# Altium footprint library Connector_TE-Connectivity.PcbLib: 65 footprints (part 4 of 5)
Each footprint in its own frame and in the unit in brackets; x right, y up, seen from the top. Pads: shape width x height; smd on the part's side, far side on the other; paste and mask are expansions set on the pad; w line width, h text height; cw(c..) or ccw(c..) is an arc to the next point about the centre after c.
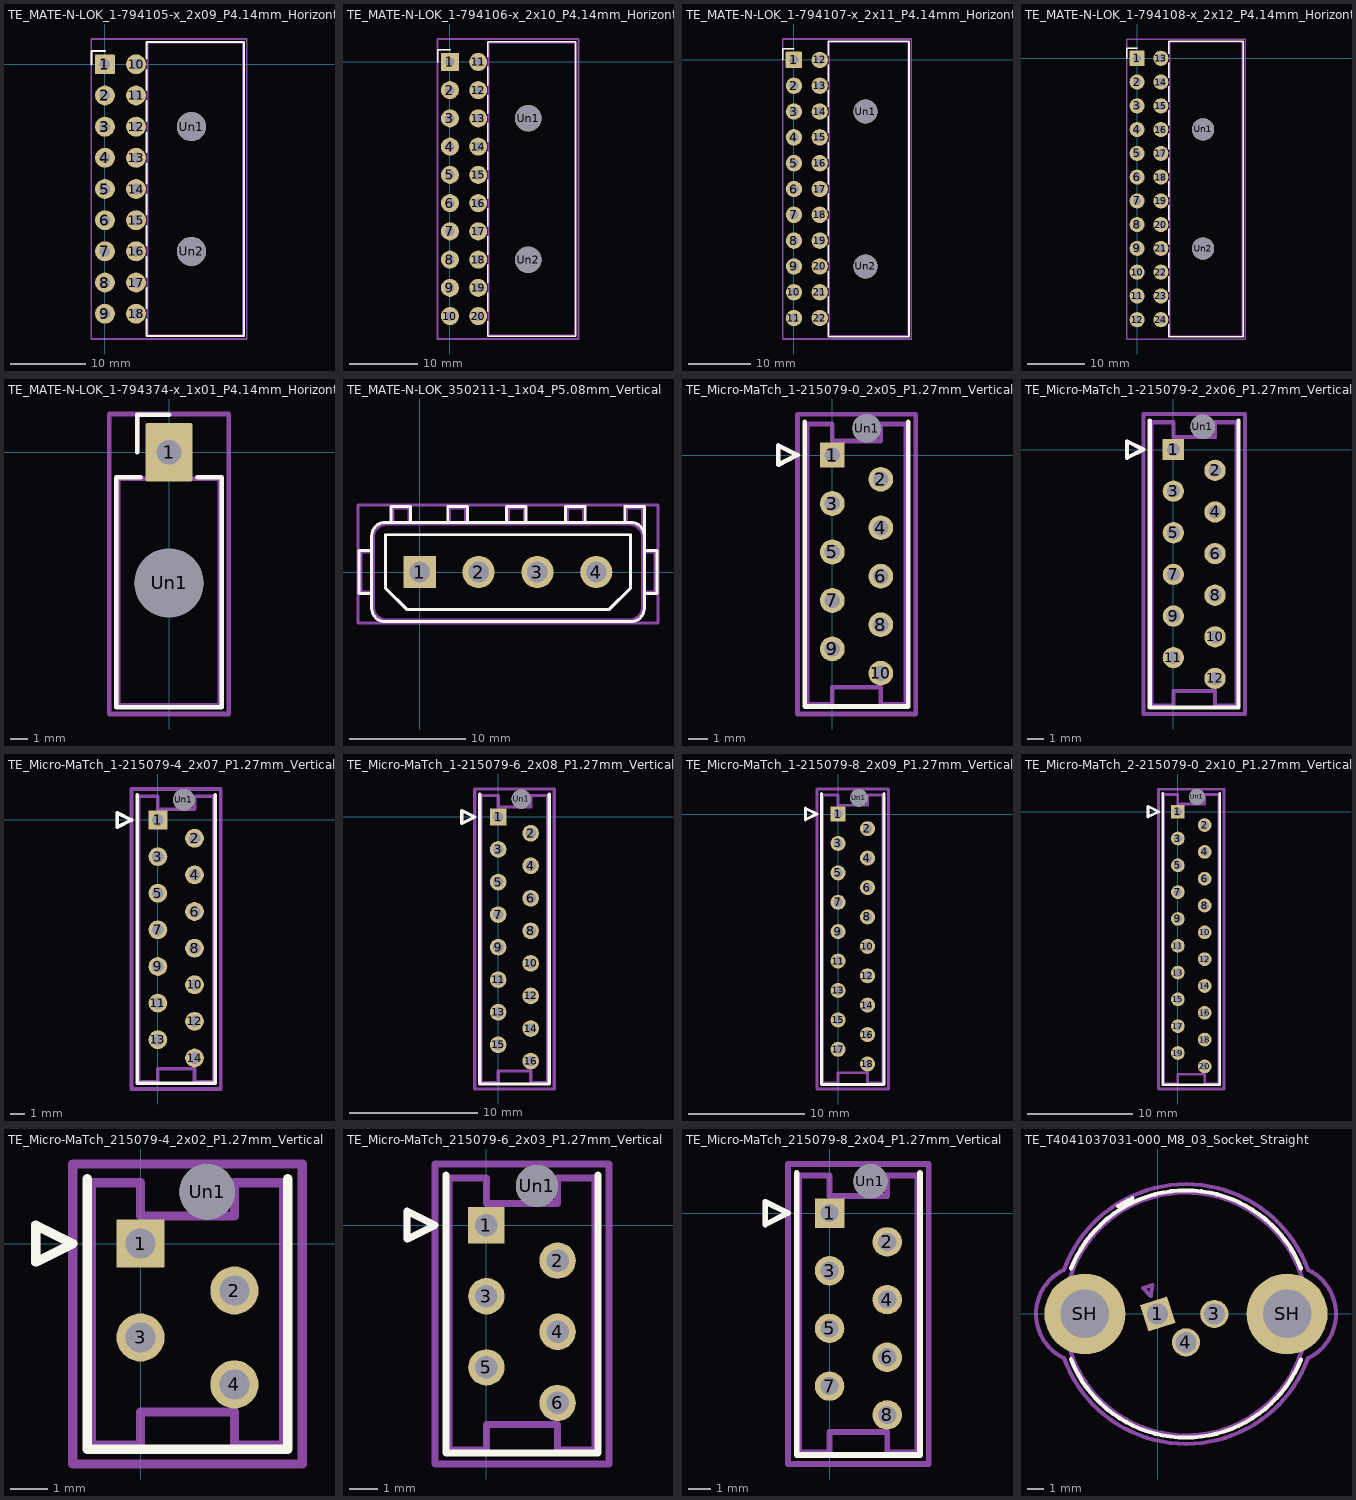
[diagram p3: the footprints below, top view; thin cyan lines are the x and y axes]

## TE_MATE-N-LOK_1-794105-x_2x09_P4.14mm_Horizontal [mm]
pads (20):
  rrect9% 2.64x2.64 hole 1.4: 1(0,0)
  round 2.64 hole 1.4: 2(0,-4.14) 3(0,-8.28) 4(0,-12.42) 5(0,-16.56) 6(0,-20.7) 7(0,-24.84) 8(0,-28.98) 9(0,-33.12) 10(4.14,0) 11(4.14,-4.14) 12(4.14,-8.28) 13(4.14,-12.42) 14(4.14,-16.56) 15(4.14,-20.7) 16(4.14,-24.84) 17(4.14,-28.98) 18(4.14,-33.12)
  round 3.86 hole 3.86: Un1(11.48,-8.28) Un2(11.48,-24.84)
F.SilkS:
  lines w0.254: -1.78,0 -1.78,1.78 0,1.78 ; 5.53,-33.871 5.53,-36.09 18.45,-36.09 18.45,2.97 5.53,2.97 5.53,0.751 ; 5.53,-32.369 5.53,-29.731 ; 5.53,-28.229 5.53,-25.591 ; 5.53,-24.089 5.53,-21.451 ; 5.53,-19.949 5.53,-17.311 ; 5.53,-15.809 5.53,-13.171 ; 5.53,-11.669 5.53,-9.031 ; 5.53,-7.529 5.53,-4.891 ; 5.53,-3.389 5.53,-0.751
Top Assembly:
  lines w0.254: -1.78,0 -1.78,1.78 0,1.78 ; 5.64,-35.98 18.34,-35.98 18.34,2.86 5.64,2.86 5.64,-35.98
  text "'.Designator'" at 18.48,-20.607 h1
Top Courtyard:
  lines w0.254: -1.82,-36.48 18.84,-36.48 18.84,3.36 -1.82,3.36 -1.82,-36.48
Top Designator:
  text ".Designator" at 0.892,-17.068 h1.52

## TE_MATE-N-LOK_1-794106-x_2x10_P4.14mm_Horizontal [mm]
pads (22):
  rrect9% 2.64x2.64 hole 1.4: 1(0,0)
  round 2.64 hole 1.4: 2(0,-4.14) 3(0,-8.28) 4(0,-12.42) 5(0,-16.56) 6(0,-20.7) 7(0,-24.84) 8(0,-28.98) 9(0,-33.12) 10(0,-37.26) 11(4.14,0) 12(4.14,-4.14) 13(4.14,-8.28) 14(4.14,-12.42) 15(4.14,-16.56) 16(4.14,-20.7) 17(4.14,-24.84) 18(4.14,-28.98) 19(4.14,-33.12) 20(4.14,-37.26)
  round 3.86 hole 3.86: Un1(11.48,-8.25) Un2(11.48,-29.01)
F.SilkS:
  lines w0.254: -1.78,0 -1.78,1.78 0,1.78 ; 5.53,-38.011 5.53,-40.23 18.45,-40.23 18.45,2.97 5.53,2.97 5.53,0.751 ; 5.53,-36.509 5.53,-33.871 ; 5.53,-32.369 5.53,-29.731 ; 5.53,-28.229 5.53,-25.591 ; 5.53,-24.089 5.53,-21.451 ; 5.53,-19.949 5.53,-17.311 ; 5.53,-15.809 5.53,-13.171 ; 5.53,-11.669 5.53,-9.031 ; 5.53,-7.529 5.53,-4.891 ; 5.53,-3.389 5.53,-0.751
Top Assembly:
  lines w0.254: -1.78,0 -1.78,1.78 0,1.78 ; 5.64,-40.12 18.34,-40.12 18.34,2.86 5.64,2.86 5.64,-40.12
  text "'.Designator'" at 18.48,-22.677 h1
Top Courtyard:
  lines w0.254: -1.82,-40.62 18.84,-40.62 18.84,3.36 -1.82,3.36 -1.82,-40.62
Top Designator:
  text ".Designator" at 0.892,-19.138 h1.52

## TE_MATE-N-LOK_1-794107-x_2x11_P4.14mm_Horizontal [mm]
pads (24):
  rrect9% 2.64x2.64 hole 1.4: 1(0,0)
  round 2.64 hole 1.4: 2(0,-4.14) 3(0,-8.28) 4(0,-12.42) 5(0,-16.56) 6(0,-20.7) 7(0,-24.84) 8(0,-28.98) 9(0,-33.12) 10(0,-37.26) 11(0,-41.4) 12(4.14,0) 13(4.14,-4.14) 14(4.14,-8.28) 15(4.14,-12.42) 16(4.14,-16.56) 17(4.14,-20.7) 18(4.14,-24.84) 19(4.14,-28.98) 20(4.14,-33.12) 21(4.14,-37.26) 22(4.14,-41.4)
  round 3.86 hole 3.86: Un1(11.48,-8.28) Un2(11.48,-33.12)
F.SilkS:
  lines w0.254: -1.78,0 -1.78,1.78 0,1.78 ; 5.53,-42.151 5.53,-44.37 18.45,-44.37 18.45,2.97 5.53,2.97 5.53,0.751 ; 5.53,-40.649 5.53,-38.011 ; 5.53,-36.509 5.53,-33.871 ; 5.53,-32.369 5.53,-29.731 ; 5.53,-28.229 5.53,-25.591 ; 5.53,-24.089 5.53,-21.451 ; 5.53,-19.949 5.53,-17.311 ; 5.53,-15.809 5.53,-13.171 ; 5.53,-11.669 5.53,-9.031 ; 5.53,-7.529 5.53,-4.891 ; 5.53,-3.389 5.53,-0.751
Top Assembly:
  lines w0.254: -1.78,0 -1.78,1.78 0,1.78 ; 5.64,-44.26 18.34,-44.26 18.34,2.86 5.64,2.86 5.64,-44.26
  text "'.Designator'" at 18.48,-24.747 h1
Top Courtyard:
  lines w0.254: -1.82,-44.76 18.84,-44.76 18.84,3.36 -1.82,3.36 -1.82,-44.76
Top Designator:
  text ".Designator" at 0.892,-21.208 h1.52

## TE_MATE-N-LOK_1-794108-x_2x12_P4.14mm_Horizontal [mm]
pads (26):
  rrect9% 2.64x2.64 hole 1.4: 1(0,0)
  round 2.64 hole 1.4: 2(0,-4.14) 3(0,-8.28) 4(0,-12.42) 5(0,-16.56) 6(0,-20.7) 7(0,-24.84) 8(0,-28.98) 9(0,-33.12) 10(0,-37.26) 11(0,-41.4) 12(0,-45.54) 13(4.14,0) 14(4.14,-4.14) 15(4.14,-8.28) 16(4.14,-12.42) 17(4.14,-16.56) 18(4.14,-20.7) 19(4.14,-24.84) 20(4.14,-28.98) 21(4.14,-33.12) 22(4.14,-37.26) 23(4.14,-41.4) 24(4.14,-45.54)
  round 3.86 hole 3.86: Un1(11.48,-12.39) Un2(11.48,-33.15)
F.SilkS:
  lines w0.254: -1.78,0 -1.78,1.78 0,1.78 ; 5.53,-46.291 5.53,-48.51 18.45,-48.51 18.45,2.97 5.53,2.97 5.53,0.751 ; 5.53,-44.789 5.53,-42.151 ; 5.53,-40.649 5.53,-38.011 ; 5.53,-36.509 5.53,-33.871 ; 5.53,-32.369 5.53,-29.731 ; 5.53,-28.229 5.53,-25.591 ; 5.53,-24.089 5.53,-21.451 ; 5.53,-19.949 5.53,-17.311 ; 5.53,-15.809 5.53,-13.171 ; 5.53,-11.669 5.53,-9.031 ; 5.53,-7.529 5.53,-4.891 ; 5.53,-3.389 5.53,-0.751
Top Assembly:
  lines w0.254: -1.78,0 -1.78,1.78 0,1.78 ; 5.64,-48.4 18.34,-48.4 18.34,2.86 5.64,2.86 5.64,-48.4
  text "'.Designator'" at 18.48,-26.817 h1
Top Courtyard:
  lines w0.254: -1.82,-48.9 18.84,-48.9 18.84,3.36 -1.82,3.36 -1.82,-48.9
Top Designator:
  text ".Designator" at 0.892,-23.278 h1.52

## TE_MATE-N-LOK_1-794374-x_1x01_P4.14mm_Horizontal [mm]
pads (2):
  rrect9% 2.64x3.3 hole 1.4: 1(0,0)
  round 3.86 hole 3.86: Un1(0,-7.34)
F.SilkS:
  lines w0.254: -1.78,0 -1.78,2.11 0,2.11 ; -1.58,-1.39 -2.97,-1.39 -2.97,-14.31 2.97,-14.31 2.97,-1.39 1.58,-1.39
Top Assembly:
  lines w0.254: -1.78,0 -1.78,2.11 0,2.11 ; -2.86,-14.2 2.86,-14.2 2.86,-1.5 -2.86,-1.5 -2.86,-14.2
  text "'.Designator'" at -4.047,-14.34 h1
Top Courtyard:
  lines w0.254: -3.36,-14.7 3.36,-14.7 3.36,2.15 -3.36,2.15 -3.36,-14.7
Top Designator:
  text ".Designator" at -7.768,-6.783 h1.52

## TE_MATE-N-LOK_350211-1_1x04_P5.08mm_Vertical [mm]
pads (4):
  rect 2.78x2.78 hole 1.78: 1(0,0)
  round 2.78 hole 1.78: 2(5.08,0) 3(10.16,0) 4(15.24,0)
F.SilkS:
  lines w0.254: -4.15,-1.86 -5.23,-1.86 -5.23,1.86 -4.15,1.86 ; -2.47,4.28 -2.47,5.67 -0.78,5.67 -0.78,4.28 ; 2.42,4.28 2.42,5.67 4.11,5.67 4.11,4.28 ; 7.5,4.28 7.5,5.67 9.19,5.67 9.19,4.28 ; 12.6,4.28 12.6,5.67 14.29,5.67 14.29,4.28 ; 17.7,4.28 17.7,5.67 19.39,5.67 19.39,-3.14 cw(c18.25,-3.14) 18.25,-4.28 -3.01,-4.28 cw(c-3.01,-3.14) -4.15,-3.14 -4.15,3.14 cw(c-3.01,3.14) -3.01,4.28 18.25,4.28 cw(c18.25,3.14) 19.39,3.14 ; 19.39,-1.86 20.47,-1.86 20.47,1.86 19.39,1.86 ; -2.95,-1.39 -1.12,-3.22 16.36,-3.22 18.19,-1.39 18.19,3.22 -2.95,3.22 -2.95,-1.39
Top Assembly:
  lines w0.254: -4,-1.71 -5.08,-1.71 -5.08,1.71 -4,1.71 ; -2.32,4.13 -2.32,5.52 -0.93,5.52 -0.93,4.13 ; 2.57,4.13 2.57,5.52 3.96,5.52 3.96,4.13 ; 7.65,4.13 7.65,5.52 9.04,5.52 9.04,4.13 ; 12.75,4.13 12.75,5.52 14.14,5.52 14.14,4.13 ; 17.85,4.13 17.85,5.52 19.24,5.52 19.24,-2.99 cw(c18.1,-2.99) 18.1,-4.13 -2.86,-4.13 cw(c-2.86,-2.99) -4,-2.99 -4,2.99 cw(c-2.86,2.99) -2.86,4.13 18.1,4.13 cw(c18.1,2.99) 19.24,2.99 ; 19.24,-1.71 20.32,-1.71 20.32,1.71 19.24,1.71 ; -2.95,-1.39 -1.12,-3.22 16.36,-3.22 18.19,-1.39 18.19,3.22 -2.95,3.22 -2.95,-1.39
  text "'.Designator'" at 3.953,-0.84 h1
Top Courtyard:
  lines w0.254: -5.33,-4.38 20.57,-4.38 20.57,5.77 -5.33,5.77 -5.33,-4.38
Top Designator:
  text ".Designator" at 0.002,0.187 h1.52

## TE_Micro-MaTch_1-215079-0_2x05_P1.27mm_Vertical [mm]
pads (11):
  rect 1.3x1.3 hole 0.8: 1(0,0)
  round 1.3 hole 0.8: 2(2.54,-1.27) 3(0,-2.54) 4(2.54,-3.81) 5(0,-5.08) 6(2.54,-6.35) 7(0,-7.62) 8(2.54,-8.89) 9(0,-10.16) 10(2.54,-11.43)
  round 1.5 hole 1.5: Un1(1.8,1.4)
F.SilkS:
  lines w0.254: -1.44,1.745 -1.44,-13.175 3.98,-13.175 3.98,1.745 ; -2.83,-0.5 -1.83,0 -2.83,0.5 -2.83,-0.5
Top Assembly:
  lines w0.254: -2.83,-0.5 -1.83,0 -2.83,0.5 -2.83,-0.5 ; -1.33,-13.065 0,-13.065 0,-12.165 1.27,-12.165 2.54,-12.165 2.54,-13.065 3.87,-13.065 3.87,-5.715 3.87,1.635 2.54,1.635 2.54,0.735 1.27,0.735 0,0.735 0,1.635 -1.33,1.635 -1.33,-5.715 -1.33,-13.065
  text "'.Designator'" at -2.777,-6.56 h1
Top Courtyard:
  lines w0.254: -1.83,-13.57 4.37,-13.57 4.37,2.14 -1.83,2.14 -1.83,-13.57
Top Designator:
  text ".Designator" at -6.513,-6.223 h1.52

## TE_Micro-MaTch_1-215079-2_2x06_P1.27mm_Vertical [mm]
pads (13):
  rect 1.3x1.3 hole 0.8: 1(0,0)
  round 1.3 hole 0.8: 2(2.54,-1.27) 3(0,-2.54) 4(2.54,-3.81) 5(0,-5.08) 6(2.54,-6.35) 7(0,-7.62) 8(2.54,-8.89) 9(0,-10.16) 10(2.54,-11.43) 11(0,-12.7) 12(2.54,-13.97)
  round 1.5 hole 1.5: Un1(1.8,1.4)
F.SilkS:
  lines w0.254: -1.44,1.775 -1.44,-15.745 3.98,-15.745 3.98,1.775 ; -2.83,-0.5 -1.83,0 -2.83,0.5 -2.83,-0.5
Top Assembly:
  lines w0.254: -2.83,-0.5 -1.83,0 -2.83,0.5 -2.83,-0.5 ; -1.33,-15.635 0,-15.635 0,-14.735 1.27,-14.735 2.54,-14.735 2.54,-15.635 3.87,-15.635 3.87,-6.985 3.87,1.665 2.54,1.665 2.54,0.765 1.27,0.765 0,0.765 0,1.665 -1.33,1.665 -1.33,-6.985 -1.33,-15.635
  text "'.Designator'" at -2.777,-7.83 h1
Top Courtyard:
  lines w0.254: -1.83,-16.14 4.37,-16.14 4.37,2.17 -1.83,2.17 -1.83,-16.14
Top Designator:
  text ".Designator" at -6.513,-7.493 h1.52

## TE_Micro-MaTch_1-215079-4_2x07_P1.27mm_Vertical [mm]
pads (15):
  rect 1.3x1.3 hole 0.8: 1(0,0)
  round 1.3 hole 0.8: 2(2.54,-1.27) 3(0,-2.54) 4(2.54,-3.81) 5(0,-5.08) 6(2.54,-6.35) 7(0,-7.62) 8(2.54,-8.89) 9(0,-10.16) 10(2.54,-11.43) 11(0,-12.7) 12(2.54,-13.97) 13(0,-15.24) 14(2.54,-16.51)
  round 1.5 hole 1.5: Un1(1.8,1.4)
F.SilkS:
  lines w0.254: -1.44,1.755 -1.44,-18.265 3.98,-18.265 3.98,1.755 ; -2.83,-0.5 -1.83,0 -2.83,0.5 -2.83,-0.5
Top Assembly:
  lines w0.254: -2.83,-0.5 -1.83,0 -2.83,0.5 -2.83,-0.5 ; -1.33,-18.155 0,-18.155 0,-17.255 1.27,-17.255 2.54,-17.255 2.54,-18.155 3.87,-18.155 3.87,-8.255 3.87,1.645 2.54,1.645 2.54,0.745 1.27,0.745 0,0.745 0,1.645 -1.33,1.645 -1.33,-8.255 -1.33,-18.155
  text "'.Designator'" at -2.777,-9.1 h1
Top Courtyard:
  lines w0.254: -1.83,-18.66 4.37,-18.66 4.37,2.15 -1.83,2.15 -1.83,-18.66
Top Designator:
  text ".Designator" at -6.513,-8.763 h1.52

## TE_Micro-MaTch_1-215079-6_2x08_P1.27mm_Vertical [mm]
pads (17):
  rect 1.3x1.3 hole 0.8: 1(0,0)
  round 1.3 hole 0.8: 2(2.54,-1.27) 3(0,-2.54) 4(2.54,-3.81) 5(0,-5.08) 6(2.54,-6.35) 7(0,-7.62) 8(2.54,-8.89) 9(0,-10.16) 10(2.54,-11.43) 11(0,-12.7) 12(2.54,-13.97) 13(0,-15.24) 14(2.54,-16.51) 15(0,-17.78) 16(2.54,-19.05)
  round 1.5 hole 1.5: Un1(1.8,1.4)
F.SilkS:
  lines w0.254: -1.44,1.785 -1.44,-20.835 3.98,-20.835 3.98,1.785 ; -2.83,-0.5 -1.83,0 -2.83,0.5 -2.83,-0.5
Top Assembly:
  lines w0.254: -2.83,-0.5 -1.83,0 -2.83,0.5 -2.83,-0.5 ; -1.33,-20.725 0,-20.725 0,-19.825 1.27,-19.825 2.54,-19.825 2.54,-20.725 3.87,-20.725 3.87,-9.525 3.87,1.675 2.54,1.675 2.54,0.775 1.27,0.775 0,0.775 0,1.675 -1.33,1.675 -1.33,-9.525 -1.33,-20.725
  text "'.Designator'" at -2.777,-10.37 h1
Top Courtyard:
  lines w0.254: -1.83,-21.23 4.37,-21.23 4.37,2.18 -1.83,2.18 -1.83,-21.23
Top Designator:
  text ".Designator" at -6.513,-10.033 h1.52

## TE_Micro-MaTch_1-215079-8_2x09_P1.27mm_Vertical [mm]
pads (19):
  rect 1.3x1.3 hole 0.8: 1(0,0)
  round 1.3 hole 0.8: 2(2.54,-1.27) 3(0,-2.54) 4(2.54,-3.81) 5(0,-5.08) 6(2.54,-6.35) 7(0,-7.62) 8(2.54,-8.89) 9(0,-10.16) 10(2.54,-11.43) 11(0,-12.7) 12(2.54,-13.97) 13(0,-15.24) 14(2.54,-16.51) 15(0,-17.78) 16(2.54,-19.05) 17(0,-20.32) 18(2.54,-21.59)
  round 1.5 hole 1.5: Un1(1.8,1.4)
F.SilkS:
  lines w0.254: -1.44,1.765 -1.44,-23.355 3.98,-23.355 3.98,1.765 ; -2.83,-0.5 -1.83,0 -2.83,0.5 -2.83,-0.5
Top Assembly:
  lines w0.254: -2.83,-0.5 -1.83,0 -2.83,0.5 -2.83,-0.5 ; -1.33,-23.245 0,-23.245 0,-22.345 1.27,-22.345 2.54,-22.345 2.54,-23.245 3.87,-23.245 3.87,-10.795 3.87,1.655 2.54,1.655 2.54,0.755 1.27,0.755 0,0.755 0,1.655 -1.33,1.655 -1.33,-10.795 -1.33,-23.245
  text "'.Designator'" at -2.777,-11.63 h1
Top Courtyard:
  lines w0.254: -1.83,-23.75 4.37,-23.75 4.37,2.16 -1.83,2.16 -1.83,-23.75
Top Designator:
  text ".Designator" at -6.513,-11.303 h1.52

## TE_Micro-MaTch_2-215079-0_2x10_P1.27mm_Vertical [mm]
pads (21):
  rect 1.3x1.3 hole 0.8: 1(0,0)
  round 1.3 hole 0.8: 2(2.54,-1.27) 3(0,-2.54) 4(2.54,-3.81) 5(0,-5.08) 6(2.54,-6.35) 7(0,-7.62) 8(2.54,-8.89) 9(0,-10.16) 10(2.54,-11.43) 11(0,-12.7) 12(2.54,-13.97) 13(0,-15.24) 14(2.54,-16.51) 15(0,-17.78) 16(2.54,-19.05) 17(0,-20.32) 18(2.54,-21.59) 19(0,-22.86) 20(2.54,-24.13)
  round 1.5 hole 1.5: Un1(1.8,1.4)
F.SilkS:
  lines w0.254: -1.44,1.745 -1.44,-25.875 3.98,-25.875 3.98,1.745 ; -2.83,-0.5 -1.83,0 -2.83,0.5 -2.83,-0.5
Top Assembly:
  lines w0.254: -2.83,-0.5 -1.83,0 -2.83,0.5 -2.83,-0.5 ; -1.33,-25.765 0,-25.765 0,-24.865 1.27,-24.865 2.54,-24.865 2.54,-25.765 3.87,-25.765 3.87,-12.065 3.87,1.635 2.54,1.635 2.54,0.735 1.27,0.735 0,0.735 0,1.635 -1.33,1.635 -1.33,-12.065 -1.33,-25.765
  text "'.Designator'" at -2.777,-12.9 h1
Top Courtyard:
  lines w0.254: -1.83,-26.27 4.37,-26.27 4.37,2.14 -1.83,2.14 -1.83,-26.27
Top Designator:
  text ".Designator" at -6.513,-12.573 h1.52

## TE_Micro-MaTch_215079-4_2x02_P1.27mm_Vertical [mm]
pads (5):
  rect 1.3x1.3 hole 0.8: 1(0,0)
  round 1.3 hole 0.8: 2(2.54,-1.27) 3(0,-2.54) 4(2.54,-3.81)
  round 1.5 hole 1.5: Un1(1.8,1.4)
F.SilkS:
  lines w0.254: -1.44,1.755 -1.44,-5.565 3.98,-5.565 3.98,1.755 ; -2.83,-0.5 -1.83,0 -2.83,0.5 -2.83,-0.5
Top Assembly:
  lines w0.254: -2.83,-0.5 -1.83,0 -2.83,0.5 -2.83,-0.5 ; -1.33,-5.455 0,-5.455 0,-4.555 1.27,-4.555 2.54,-4.555 2.54,-5.455 3.87,-5.455 3.87,-1.905 3.87,1.645 2.54,1.645 2.54,0.745 1.27,0.745 0,0.745 0,1.645 -1.33,1.645 -1.33,-1.905 -1.33,-5.455
  text "'.Designator'" at -2.777,-2.75 h1
Top Courtyard:
  lines w0.254: -1.83,-5.96 4.37,-5.96 4.37,2.15 -1.83,2.15 -1.83,-5.96
Top Designator:
  text ".Designator" at -6.513,-2.413 h1.52

## TE_Micro-MaTch_215079-6_2x03_P1.27mm_Vertical [mm]
pads (7):
  rect 1.3x1.3 hole 0.8: 1(0,0)
  round 1.3 hole 0.8: 2(2.54,-1.27) 3(0,-2.54) 4(2.54,-3.81) 5(0,-5.08) 6(2.54,-6.35)
  round 1.5 hole 1.5: Un1(1.8,1.4)
F.SilkS:
  lines w0.254: -1.44,1.785 -1.44,-8.135 3.98,-8.135 3.98,1.785 ; -2.83,-0.5 -1.83,0 -2.83,0.5 -2.83,-0.5
Top Assembly:
  lines w0.254: -2.83,-0.5 -1.83,0 -2.83,0.5 -2.83,-0.5 ; -1.33,-8.025 0,-8.025 0,-7.125 1.27,-7.125 2.54,-7.125 2.54,-8.025 3.87,-8.025 3.87,-3.175 3.87,1.675 2.54,1.675 2.54,0.775 1.27,0.775 0,0.775 0,1.675 -1.33,1.675 -1.33,-3.175 -1.33,-8.025
  text "'.Designator'" at -2.777,-4.01 h1
Top Courtyard:
  lines w0.254: -1.83,-8.53 4.37,-8.53 4.37,2.18 -1.83,2.18 -1.83,-8.53
Top Designator:
  text ".Designator" at -6.513,-3.683 h1.52

## TE_Micro-MaTch_215079-8_2x04_P1.27mm_Vertical [mm]
pads (9):
  rect 1.3x1.3 hole 0.8: 1(0,0)
  round 1.3 hole 0.8: 2(2.54,-1.27) 3(0,-2.54) 4(2.54,-3.81) 5(0,-5.08) 6(2.54,-6.35) 7(0,-7.62) 8(2.54,-8.89)
  round 1.5 hole 1.5: Un1(1.8,1.4)
F.SilkS:
  lines w0.254: -1.44,1.765 -1.44,-10.655 3.98,-10.655 3.98,1.765 ; -2.83,-0.5 -1.83,0 -2.83,0.5 -2.83,-0.5
Top Assembly:
  lines w0.254: -2.83,-0.5 -1.83,0 -2.83,0.5 -2.83,-0.5 ; -1.33,-10.545 0,-10.545 0,-9.645 1.27,-9.645 2.54,-9.645 2.54,-10.545 3.87,-10.545 3.87,-4.445 3.87,1.655 2.54,1.655 2.54,0.755 1.27,0.755 0,0.755 0,1.655 -1.33,1.655 -1.33,-4.445 -1.33,-10.545
  text "'.Designator'" at -2.777,-5.28 h1
Top Courtyard:
  lines w0.254: -1.83,-11.05 4.37,-11.05 4.37,2.16 -1.83,2.16 -1.83,-11.05
Top Designator:
  text ".Designator" at -6.513,-4.953 h1.52

## TE_T4041037031-000_M8_03_Socket_Straight [mm]
pads (5):
  rect 1.74x1.74 hole 1.3 rot 17.8: 1(0,0)
  round 1.74 hole 1.3: 3(3.5,0) 4(1.75,-1.75)
  round 5 hole 3: SH(-4.5,0) SH(8,0)
F.SilkS:
  lines w0.254: -5.36,-2.8 ccw(c1.75,0) 8.859,-2.803 ; -5.359,2.803 cw(c1.75,0) 8.86,2.8 ; -2.446,6.664 cw(c1.75,-0.001) -1.55,7.15
Top Assembly:
  circle w0.254: c1.75,0 r7.5
  lines w0.254: -0.9,1.6 -0.329,1.783 -0.431,1.12 -0.9,1.6
  text "'.Designator'" at -2.297,-1.34 h1
Top Courtyard:
  lines w0.254: -5.79,-2.73 ccw(c1.75,-0.008) 9.29,-2.73 ccw(c8,0) 9.29,2.73 ccw(c1.75,0.003) -5.79,2.73 ccw(c-4.5,0) -5.79,-2.73
Top Designator:
  text ".Designator" at -5.868,-0.51 h1.52